# Altium footprint library 632723100011.PcbLib: 1 footprints
Each footprint in its own frame and in the unit in brackets; x right, y up, seen from the top. Pads: shape width x height; smd on the part's side, far side on the other; paste and mask are expansions set on the pad; w line width, h text height; cw(c..) or ccw(c..) is an arc to the next point about the centre after c.
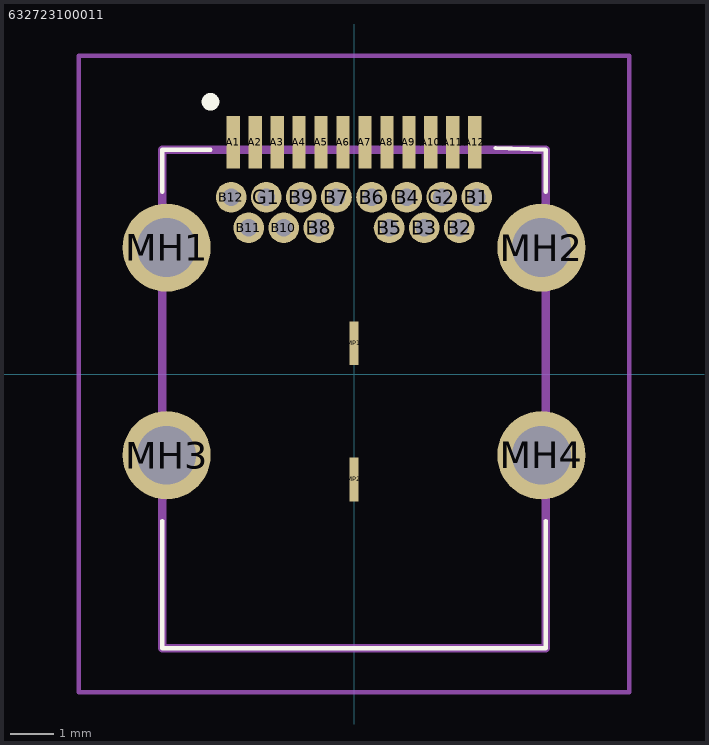
[diagram p0: the footprint, top view; thin cyan lines are the x and y axes]

## 632723100011 [mm]
pads (32):
  rect 0.3x1.2 smd: A1(-2.75,5.28) A2(-2.25,5.28) A3(-1.75,5.28) A4(-1.25,5.28) A5(-0.75,5.28) A6(-0.25,5.28) A7(0.25,5.28) A8(0.75,5.28) A9(1.25,5.28) A10(1.75,5.28) A11(2.25,5.28) A12(2.75,5.28)
  round 0.7 hole 0.4: B1(2.8,4.03) B2(2.4,3.33) B3(1.6,3.33) B4(1.2,4.03) B5(0.8,3.33) B6(0.4,4.03) B7(-0.4,4.03) B8(-0.8,3.33) B9(-1.2,4.03) B10(-1.6,3.33) B11(-2.4,3.33) B12(-2.8,4.03) G1(-2,4.03) G2(2,4.03)
  round 2.01 hole 1.34: MH1(-4.27,2.88) MH2(4.27,2.88) MH3(-4.27,-1.85) MH4(4.27,-1.85)
  rect 0.2x1 smd: MP1(0,0.7) MP2(0,-2.4)
Top Overlay:
  lines w0.1: -4.37,-3.35 -4.37,-6.25 4.37,-6.25 4.37,-3.35 ; -4.37,4.15 -4.37,5.11 -3.27,5.11 ; 3.23,5.15 4.37,5.11 4.37,4.15
  lines w0.3: -3.27,6.15 -3.27,6.15 ; -3.27,6.15 ccw(c-3.27,6.2) -3.27,6.25 ; -3.27,6.15 cw(c-3.27,6.2) -3.27,6.25 ; -3.27,6.25 -3.27,6.25
Mechanical 15:
  lines w0.2: -4.37,-6.25 4.37,-6.25 4.37,5.11 -4.37,5.11 -4.37,-6.25
Mechanical 20:
  lines w0.1: -6.275,-7.25 6.275,-7.25 6.275,7.25 -6.275,7.25 -6.275,-7.25